# Altium schematic symbol library Mic1.Schlib: 1 symbol
Pins are listed as number, name and electrical type; pins without a type are passive.

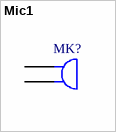
[diagram p0: symbol Mic1]

## Mic1
designator MK?
Microphone
pins: 1, 2